# Altium footprint library PcbLib1.PcbLib: 259 footprints (part 15 of 17)
Each footprint in its own frame and in the unit in brackets; x right, y up, seen from the top. Pads: shape width x height; smd on the part's side, far side on the other; paste and mask are expansions set on the pad; w line width, h text height; cw(c..) or ccw(c..) is an arc to the next point about the centre after c.
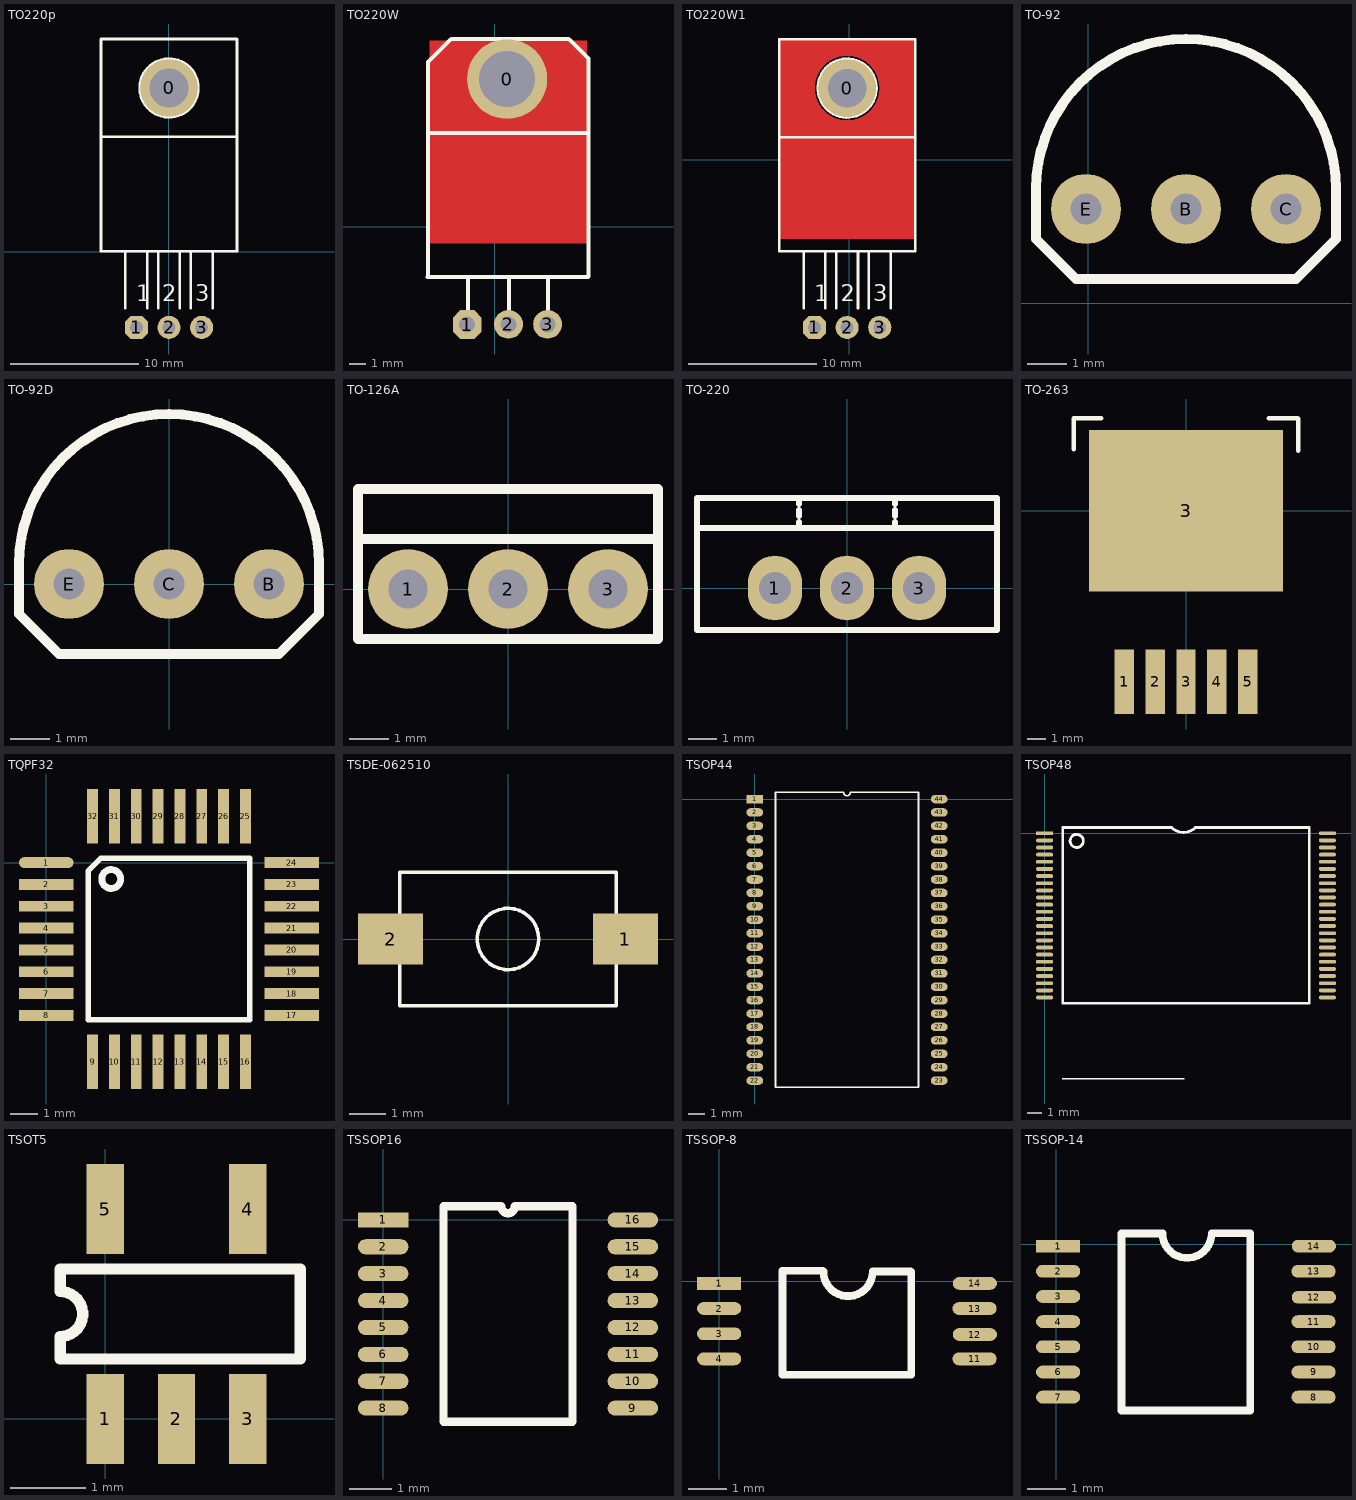
[diagram p14: the footprints below, top view; thin cyan lines are the x and y axes]

## TO220p [mm]
pads (4):
  round 4.5 hole 3: 0(0.026,12.739)
  oct 1.8x1.8 hole 1: 1(-2.514,-5.888)
  round 1.8 hole 1: 2(0.026,-5.888) 3(2.566,-5.888)
Top Overlay:
  circle w0.203: c0.026,12.739 r2.286
  lines w0.2: -5.266,8.929 5.318,8.929 ; -3.361,-4.406 -3.361,0.039 ; -1.667,-4.406 -1.667,0.039 ; -0.821,-4.406 -0.821,0.039 ; 0.873,-4.406 0.873,0.039 ; 1.719,-4.406 1.719,0.039 ; 3.413,-4.406 3.413,0.039 ; -5.266,0.039 -5.266,16.549 5.318,16.549 5.318,0.039 -5.266,0.039
  text "3" at 2.058,-3.856 h1.27
  text "2" at -0.482,-3.856 h1.27
  text "1" at -2.514,-3.856 h1.27

## TO220W [mm]
pads (4):
  round 5 hole 3.5: 0(0.78,9.22)
  oct 1.8x1.8 hole 1: 1(-1.72,-6.12)
  round 1.8 hole 1: 2(0.86,-6.1) 3(3.3,-6.1)
Top Layer:
  rectangle: -4.08,-1.04 5.76,11.64
Top Overlay:
  lines w0.254: -4.2,-3.14 5.84,-3.14 ; -4.18,-3.08 -4.18,9.9 ; -4.18,5.86 5.84,5.86 ; -4.18,9.78 -4.18,10.28 ; -4.14,10.3 -2.76,11.68 ; -2.68,11.72 4.6,11.72 ; -1.66,-5.7 -1.66,-3.16 ; 0.9,-5.78 0.9,-3.2 ; 3.34,-5.72 3.34,-3.2 ; 4.7,11.66 5.86,10.5 5.86,9.72 ; 5.86,-3.12 5.86,9.78
Top Paste:
  rectangle: -4.06,-0.96 5.72,11.54

## TO220W1 [mm]
pads (4):
  round 4.5 hole 3: 0(-0.177,5.576)
  oct 1.8x1.8 hole 1: 1(-2.717,-13.051)
  round 1.8 hole 1: 2(-0.177,-13.051) 3(2.363,-13.051)
Top Layer:
  circle w0.16: c-0.177,5.576 r2.584
  lines w0.16: -5.486,-6.04 5.08,-6.04 ; -5.486,-5.88 5.08,-5.88 ; -5.486,-5.72 5.08,-5.72 ; -5.486,-5.56 5.08,-5.56 ; -5.486,-5.4 5.08,-5.4 ; -5.486,-5.24 5.08,-5.24 ; -5.486,-5.08 5.08,-5.08 ; -5.486,-4.92 5.08,-4.92 ; -5.486,-4.76 5.08,-4.76 ; -5.486,-4.6 5.08,-4.6 ; -5.486,-4.44 5.08,-4.44 ; -5.486,-4.28 5.08,-4.28 ; -5.486,-4.12 5.08,-4.12 ; -5.486,-3.96 5.08,-3.96 ; -5.486,-3.8 5.08,-3.8 ; -5.486,-3.64 5.08,-3.64 ; -5.486,-3.48 5.08,-3.48 ; -5.486,-3.32 5.08,-3.32 ; -5.486,-3.16 5.08,-3.16 ; -5.486,-3 5.08,-3 ; -5.486,-2.84 5.08,-2.84 ; -5.486,-2.68 5.08,-2.68 ; -5.486,-2.52 5.08,-2.52 ; -5.486,-2.36 5.08,-2.36 ; -5.486,-2.2 5.08,-2.2 ; -5.486,-2.04 5.08,-2.04 ; -5.486,-1.88 5.08,-1.88 ; -5.486,-1.72 5.08,-1.72 ; -5.486,-1.56 5.08,-1.56 ; -5.486,-1.4 5.08,-1.4 ; -5.486,-1.24 5.08,-1.24 ; -5.486,-1.08 5.08,-1.08 ; -5.486,-0.92 5.08,-0.92 ; -5.486,-0.76 5.08,-0.76 ; -5.486,-0.6 5.08,-0.6 ; -5.486,-0.44 5.08,-0.44 ; -5.486,-0.28 5.08,-0.28 ; -5.486,-0.12 5.08,-0.12 ; -5.486,0.04 5.08,0.04 ; -5.486,0.2 5.08,0.2 ; -5.486,0.36 5.08,0.36 ; -5.486,0.52 5.08,0.52 ; -5.486,0.68 5.08,0.68 ; -5.486,0.84 5.08,0.84 ; -5.486,1 5.08,1 ; -5.486,1.16 5.08,1.16 ; -5.486,1.32 5.08,1.32 ; -5.486,1.48 5.08,1.48 ; -5.486,1.64 5.08,1.64 ; -5.486,1.8 5.08,1.8 ; -5.486,1.96 5.08,1.96 ; -5.486,2.12 5.08,2.12 ; -5.486,2.28 5.08,2.28 ; -5.486,2.44 5.08,2.44 ; -5.486,2.6 5.08,2.6 ; -5.486,2.76 5.08,2.76 ; -5.486,2.92 5.08,2.92 ; -5.486,3.08 -0.846,3.08 ; -5.486,3.24 -1.282,3.24 ; -5.486,3.4 -1.571,3.4 ; -5.486,3.56 -1.794,3.56 ; -5.486,3.72 -1.975,3.72 ; -5.486,3.88 -2.127,3.88 ; -5.486,4.04 -2.255,4.04 ; -5.486,4.2 -2.364,4.2 ; -5.486,4.36 -2.457,4.36 ; -5.486,4.52 -2.536,4.52 ; -5.486,4.68 -2.601,4.68 ; -5.486,4.84 -2.654,4.84 ; -5.486,5 -2.696,5 ; -5.486,5.16 -2.728,5.16 ; -5.486,5.32 -2.748,5.32 ; -5.486,5.48 -2.759,5.48 ; -5.486,5.64 -2.76,5.64 ; -5.486,5.8 -2.751,5.8 ; -5.486,5.96 -2.732,5.96 ; -5.486,6.12 -2.703,6.12 ; -5.486,6.28 -2.663,6.28 ; -5.486,6.44 -2.612,6.44 ; -5.486,6.6 -2.55,6.6 ; -5.486,6.76 -2.474,6.76 ; -5.486,6.92 -2.384,6.92 ; -5.486,7.08 -2.278,7.08 ; -5.486,7.24 -2.154,7.24 ; -5.486,7.4 -2.007,7.4 ; -5.486,7.56 -1.833,7.56 ; -5.486,7.72 -1.619,7.72 ; -5.486,7.88 -1.347,7.88 ; -5.486,8.04 -0.955,8.04 ; -5.486,8.2 5.08,8.2 ; -5.486,8.36 5.08,8.36 ; -5.486,8.52 5.08,8.52 ; -5.486,8.68 5.08,8.68 ; -5.486,8.84 5.08,8.84 ; -5.486,9 5.08,9 ; -5.486,9.16 5.08,9.16 ; -5.486,9.32 5.08,9.32 ; -5.484,-6.096 -5.484,9.398 ; -5.324,-6.096 -5.324,9.398 ; -5.164,-6.096 -5.164,9.398 ; -5.004,-6.096 -5.004,9.398 ; -4.844,-6.096 -4.844,9.398 ; -4.684,-6.096 -4.684,9.398 ; -4.524,-6.096 -4.524,9.398 ; -4.364,-6.096 -4.364,9.398 ; -4.204,-6.096 -4.204,9.398 ; -4.044,-6.096 -4.044,9.398 ; -3.884,-6.096 -3.884,9.398 ; -3.724,-6.096 -3.724,9.398 ; -3.564,-6.096 -3.564,9.398 ; -3.404,-6.096 -3.404,9.398 ; -3.244,-6.096 -3.244,9.398 ; -3.084,-6.096 -3.084,9.398 ; -2.924,-6.096 -2.924,9.398 ; -2.764,-6.096 -2.764,9.398 ; -2.604,-6.096 -2.604,4.689 ; -2.604,6.463 -2.604,9.398 ; -2.444,-6.096 -2.444,4.336 ; -2.444,6.816 -2.444,9.398 ; -2.284,-6.096 -2.284,4.08 ; -2.284,7.072 -2.284,9.398 ; -2.124,-6.096 -2.124,3.877 ; -2.124,7.275 -2.124,9.398 ; -1.964,-6.096 -1.964,3.709 ; -1.964,7.442 -1.964,9.398 ; -1.804,-6.096 -1.804,3.568 ; -1.804,7.583 -1.804,9.398 ; -1.644,-6.096 -1.644,3.449 ; -1.644,7.703 -1.644,9.398 ; -1.484,-6.096 -1.484,3.347 ; -1.484,7.805 -1.484,9.398 ; -1.324,-6.096 -1.324,3.26 ; -1.324,7.891 -1.324,9.398 ; -1.164,-6.096 -1.164,3.188 ; -1.164,7.964 -1.164,9.398 ; -1.004,-6.096 -1.004,3.128 ; -1.004,8.024 -1.004,9.398 ; -0.844,-6.096 -0.844,3.079 ; -0.844,8.072 -0.844,9.398 ; -0.684,-6.096 -0.684,3.042 ; -0.684,8.11 -0.684,9.398 ; -0.524,-6.096 -0.524,3.015 ; -0.524,8.136 -0.524,9.398 ; -0.364,-6.096 -0.364,2.999 ; -0.364,8.153 -0.364,9.398 ; -0.204,-6.096 -0.204,2.992 ; -0.204,8.16 -0.204,9.398 ; -0.044,-6.096 -0.044,2.995 ; -0.044,8.156 -0.044,9.398 ; 0.116,-6.096 0.116,3.009 ; 0.116,8.143 0.116,9.398 ; 0.276,-6.096 0.276,3.032 ; 0.276,8.12 0.276,9.398 ; 0.436,-6.096 0.436,3.066 ; 0.436,8.086 0.436,9.398 ; 0.492,3.08 5.08,3.08 ; 0.596,-6.096 0.596,3.11 ; 0.596,8.042 0.596,9.398 ; 0.601,8.04 5.08,8.04 ; 0.756,-6.096 0.756,3.166 ; 0.756,7.986 0.756,9.398 ; 0.916,-6.096 0.916,3.234 ; 0.916,7.917 0.916,9.398 ; 0.928,3.24 5.08,3.24 ; 0.993,7.88 5.08,7.88 ; 1.076,-6.096 1.076,3.316 ; 1.076,7.836 1.076,9.398 ; 1.217,3.4 5.08,3.4 ; 1.236,-6.096 1.236,3.412 ; 1.236,7.739 1.236,9.398 ; 1.265,7.72 5.08,7.72 ; 1.396,-6.096 1.396,3.526 ; 1.396,7.626 1.396,9.398 ; 1.439,3.56 5.08,3.56 ; 1.478,7.56 5.08,7.56 ; 1.556,-6.096 1.556,3.659 ; 1.556,7.493 1.556,9.398 ; 1.621,3.72 5.08,3.72 ; 1.653,7.4 5.08,7.4 ; 1.716,-6.096 1.716,3.817 ; 1.716,7.335 1.716,9.398 ; 1.772,3.88 5.08,3.88 ; 1.8,7.24 5.08,7.24 ; 1.876,-6.096 1.876,4.007 ; 1.876,7.145 1.876,9.398 ; 1.901,4.04 5.08,4.04 ; 1.924,7.08 5.08,7.08 ; 2.01,4.2 5.08,4.2 ; 2.03,6.92 5.08,6.92 ; 2.036,-6.096 2.036,4.242 ; 2.036,6.91 2.036,9.398 ; 2.103,4.36 5.08,4.36 ; 2.12,6.76 5.08,6.76 ; 2.181,4.52 5.08,4.52 ; 2.196,-6.096 2.196,4.553 ; 2.196,6.599 2.196,9.398 ; 2.195,6.6 5.08,6.6 ; 2.247,4.68 5.08,4.68 ; 2.258,6.44 5.08,6.44 ; 2.3,4.84 5.08,4.84 ; 2.309,6.28 5.08,6.28 ; 2.342,5 5.08,5 ; 2.349,6.12 5.08,6.12 ; 2.356,-6.096 2.356,5.065 ; 2.356,6.087 2.356,9.398 ; 2.373,5.16 5.08,5.16 ; 2.378,5.96 5.08,5.96 ; 2.394,5.32 5.08,5.32 ; 2.397,5.8 5.08,5.8 ; 2.405,5.48 5.08,5.48 ; 2.406,5.64 5.08,5.64 ; 2.516,-6.096 2.516,9.398 ; 2.676,-6.096 2.676,9.398 ; 2.836,-6.096 2.836,9.398 ; 2.996,-6.096 2.996,9.398 ; 3.156,-6.096 3.156,9.398 ; 3.316,-6.096 3.316,9.398 ; 3.476,-6.096 3.476,9.398 ; 3.636,-6.096 3.636,9.398 ; 3.796,-6.096 3.796,9.398 ; 3.956,-6.096 3.956,9.398 ; 4.116,-6.096 4.116,9.398 ; 4.276,-6.096 4.276,9.398 ; 4.436,-6.096 4.436,9.398 ; 4.596,-6.096 4.596,9.398 ; 4.756,-6.096 4.756,9.398 ; 4.916,-6.096 4.916,9.398 ; 5.076,-6.096 5.076,9.398 ; -5.486,-6.096 -5.486,9.398 5.08,9.398 5.08,-6.096 -5.486,-6.096
Top Overlay:
  circle w0.203: c-0.177,5.576 r2.286
  lines w0.2: -5.469,1.766 5.114,1.766 ; -3.564,-11.569 -3.564,-7.124 ; -1.871,-11.569 -1.871,-7.124 ; -1.024,-11.569 -1.024,-7.124 ; 0.669,-11.569 0.669,-7.124 ; 1.516,-11.569 1.516,-7.124 ; 3.209,-11.569 3.209,-7.124 ; -5.469,-7.124 -5.469,9.386 5.114,9.386 5.114,-7.124 -5.469,-7.124
  text "3" at 1.855,-11.019 h1.27
  text "2" at -0.685,-11.019 h1.27
  text "1" at -2.717,-11.019 h1.27

## TO-92 [mil]
pads (3):
  round 70 hole 31.5: B(98,94) C(198,94) E(-2,94)
Top Overlay:
  lines w10: -52,64 -12,24 208,24 248,64 248,114 ccw(c98,114) -52,114 -52,64

## TO-92D [mil]
pads (3):
  round 70 hole 31.5: B(100,0) C(0,0) E(-100,0)
Top Overlay:
  lines w10: -150,-30 -150,20 cw(c0,20) 150,20 150,-30 110,-70 -110,-70 -150,-30

## TO-126A [mil]
pads (3):
  round 80 hole 39: 1(-100,0) 2(0,0) 3(100,0)
Top Overlay:
  lines w10: 150,40 150,100 -150,100 -150,50 ; -150,50 150,50 150,-50 -150,-50 -150,50

## TO-220 [mil]
pads (3):
  oval 75x90 hole 45: 1(-100,0) 2(0,0) 3(100,0)
Top Overlay:
  lines w7.87: -66.67,83.33 -66.67,91.67 ; -66.67,100 -66.67,108.33 ; -66.67,116.67 -66.67,125 ; 66.67,83.33 66.67,91.67 ; 66.67,100 66.67,108.33 ; 66.67,116.67 66.67,125 ; -208.33,83.33 208.33,83.33 ; -208.33,83.33 -208.33,-58.33 208.33,-58.33 208.33,83.33 ; -208.33,83.33 -208.33,125 208.33,125 208.33,83.33

## TO-263 [mil]
pads (6):
  rect 42x140 smd: 1(-134,-370) 2(-67,-370) 3(0,-370) 4(67,-370) 5(134,-370)
  rect 420x350 smd: 3(0,0)
Top Overlay:
  lines w10: -243,134 -243,201 -184,201 ; 179,201 242,201 243,200 243,130

## TQPF32 [mm]
pads (32):
  oval 2x0.4 smd: 1(0,0)
  rect 2x0.4 smd: 2(0,-0.8) 3(0,-1.6) 4(0,-2.4) 5(0,-3.2) 6(0,-4) 7(0,-4.8) 8(0,-5.6) 17(9,-5.6) 18(9,-4.8) 19(9,-4) 20(9,-3.2) 21(9,-2.4) 22(9,-1.6) 23(9,-0.8) 24(9,0)
  rect 0.4x2 smd: 9(1.7,-7.3) 10(2.5,-7.3) 11(3.3,-7.3) 12(4.1,-7.3) 13(4.9,-7.3) 14(5.7,-7.3) 15(6.5,-7.3) 16(7.3,-7.3) 25(7.3,1.7) 26(6.5,1.7) 27(5.7,1.7) 28(4.9,1.7) 29(4.1,1.7) 30(3.3,1.7) 31(2.5,1.7) 32(1.7,1.7)
Top Overlay:
  circle w0.254: c2.383,-0.6 r0.347
  lines w0.2: 1.535,-5.765 7.465,-5.765 7.465,0.165 2,0.165 1.535,-0.31 1.535,-5.765

## TSDE-062510 [mm]
pads (2):
  rect 1.8x1.4 smd: 1(3.25,0) 2(-3.25,0)
Top Overlay:
  circle w0.1: c0,0 r0.85
  lines w0.1: -3,-1.85 -3,1.85 3,1.85 3,-1.85 -3,-1.85

## TSOP44 [mm]
pads (44):
  rect 1x0.508 smd: 1(0,0)
  oval 1x0.508 smd: 2(0,-0.8) 3(0,-1.6) 4(0,-2.4) 5(0,-3.2) 6(0,-4) 7(0,-4.8) 8(0,-5.6) 9(0,-6.4) 10(0,-7.2) 11(0,-8) 12(0,-8.8) 13(0,-9.6) 14(0,-10.4) 15(0,-11.2) 16(0,-12) 17(0,-12.8) 18(0,-13.6) 19(0,-14.4) 20(0,-15.2) 21(0,-16) 22(0,-16.8) 23(11,-16.8) 24(11,-16) 25(11,-15.2) 26(11,-14.4) 27(11,-13.6) 28(11,-12.8) 29(11,-12) 30(11,-11.2) 31(11,-10.4) 32(11,-9.6) 33(11,-8.8) 34(11,-8) 35(11,-7.2) 36(11,-6.4) 37(11,-5.6) 38(11,-4.8) 39(11,-4) 40(11,-3.2) 41(11,-2.4) 42(11,-1.6) 43(11,-0.8) 44(11,0)
Top Overlay:
  lines w0.1: 1.235,-17.2 9.765,-17.2 9.765,0.4 5.7,0.4 cw(c5.5,0.4) 5.3,0.4 1.235,0.4 1.235,-17.2

## TSOP48 [mm]
pads (48):
  rect 1.2x0.27 smd: 1(0,0)
  oval 1.2x0.27 smd: 2(0,-0.5) 3(0,-1) 4(0,-1.5) 5(0,-2) 6(0,-2.5) 7(0,-3) 8(0,-3.5) 9(0,-4) 10(0,-4.5) 11(0,-5) 12(0,-5.5) 13(0,-6) 14(0,-6.5) 15(0,-7) 16(0,-7.5) 17(0,-8) 18(0,-8.5) 19(0,-9) 20(0,-9.5) 21(0,-10) 22(0,-10.5) 23(0,-11) 24(0,-11.5) 25(19.8,-11.5) 26(19.8,-11) 27(19.8,-10.5) 28(19.8,-10) 29(19.8,-9.5) 30(19.8,-9) 31(19.8,-8.5) 32(19.8,-8) 33(19.8,-7.5) 34(19.8,-7) 35(19.8,-6.5) 36(19.8,-6) 37(19.8,-5.5) 38(19.8,-5) 39(19.8,-4.5) 40(19.8,-4) 41(19.8,-3.5) 42(19.8,-3) 43(19.8,-2.5) 44(19.8,-2) 45(19.8,-1.5) 46(19.8,-1) 47(19.8,-0.5) 48(19.8,0)
Top Overlay:
  circle w0.2: c2.25,-0.54 r0.461
  lines w0.1: 1.235,-17.2 9.765,-17.2
  lines w0.2: 1.27,-11.9 18.53,-11.9 18.53,0.4 10.55,0.4 cw(c9.725,1.225) 8.9,0.4 1.27,0.4 1.27,-11.9

## TSOT5 [mm]
pads (5):
  rect 0.5x1.2 smd: 1(0,0) 2(0.95,0) 3(1.9,0) 4(1.9,2.8) 5(0,2.8)
Top Overlay:
  lines w0.15: -0.6,0.8 -0.6,1.1 ccw(c-0.6,1.4) -0.6,1.7 -0.6,2 2.6,2 2.6,0.8 -0.6,0.8

## TSSOP16 [mm]
pads (16):
  rect 1.2x0.36 smd: 1(0,0)
  oval 1.2x0.36 smd: 2(0,-0.64) 3(0,-1.28) 4(0,-1.92) 5(0,-2.56) 6(0,-3.2) 7(0,-3.84) 8(0,-4.48) 9(5.94,-4.48) 10(5.94,-3.84) 11(5.94,-3.2) 12(5.94,-2.56) 13(5.94,-1.92) 14(5.94,-1.28) 15(5.94,-0.64) 16(5.94,0)
Top Overlay:
  lines w0.2: 1.435,-4.8 1.435,0.32 2.81,0.32 ccw(c2.97,0.32) 3.13,0.32 4.505,0.32 4.505,-4.8 1.435,-4.8

## TSSOP-8 [mil]
pads (8):
  rect 45x12.99 smd: 1(-0.16,-2)
  oval 45x12.99 smd: 2(-0.16,-27.59) 3(-0.16,-53.18) 4(-0.16,-78.77) 11(259.69,-78.77) 12(260,-54) 13(259.69,-27.59) 14(260,-2)
Top Overlay:
  lines w7.87: 105.2,10.79 64.21,10.79 64.21,-94.88 195.31,-94.88 195.31,9.84 ; 106,10 ccw(c131,10) 156,10 194.52,10

## TSSOP-14 [mil]
pads (14):
  rect 45x12.99 smd: 1(1.84,-2)
  oval 45x12.99 smd: 2(1.84,-27.59) 3(1.84,-53.18) 4(1.84,-78.77) 5(1.84,-104.36) 6(1.84,-129.95) 7(1.84,-155.54) 8(261.69,-155.54) 9(261.69,-129.95) 10(261.69,-104.36) 11(261.69,-78.77) 12(262,-54) 13(261.69,-27.59) 14(262,-2)
Top Overlay:
  lines w7.87: 107.64,10.79 66.21,10.79 66.21,-169.29 197.31,-169.29 197.31,10.79 ; 108,11 ccw(c133,11) 158,11 197.11,11